# Altium footprint library MAX14626ETT_.PcbLib: 1 footprints
Each footprint in its own frame and in the unit in brackets; x right, y up, seen from the top. Pads: shape width x height; smd on the part's side, far side on the other; paste and mask are expansions set on the pad; w line width, h text height; cw(c..) or ccw(c..) is an arc to the next point about the centre after c.
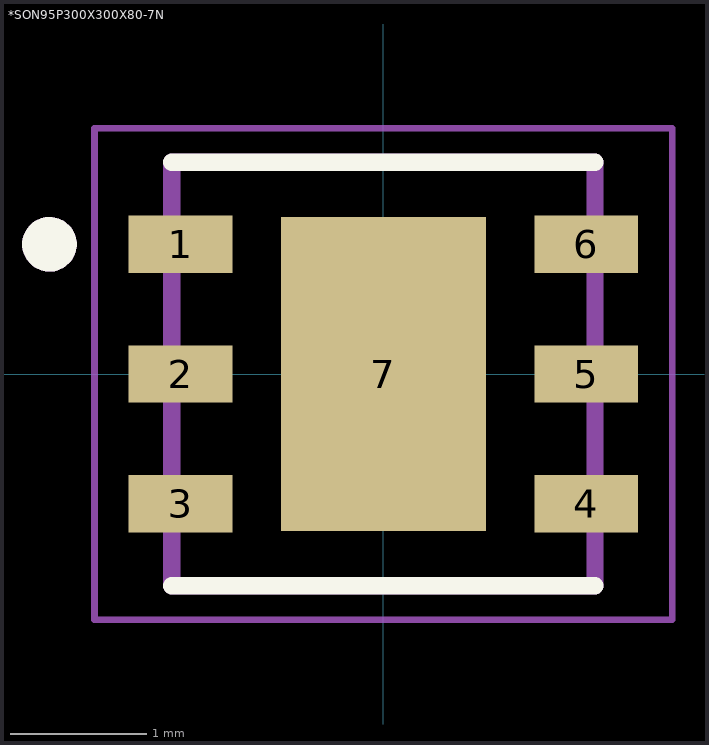
[diagram p0: the footprint, top view; thin cyan lines are the x and y axes]

## *SON95P300X300X80-7N [mm]
pads (7):
  rect 0.76x0.42 smd: 1(-1.485,0.95) 2(-1.485,0) 3(-1.485,-0.95) 4(1.485,-0.95) 5(1.485,0) 6(1.485,0.95)
  rect 1.5x2.3 smd: 7(0,0)
Top Overlay:
  circle w0.2: c-2.445,0.95 r0.1
  lines w0.127: -1.55,-1.55 1.55,-1.55 ; -1.55,1.55 1.55,1.55
Top Paste:
  region: -0.47,0.73 0.47,0.73 0.47,-0.73 -0.47,-0.73
Mechanical 4:
  circle w0.2: c-2.445,0.95 r0.1
  circle w0.2: c-2.445,0.95 r0.1
  lines w0.127: -1.55,-1.55 1.55,-1.55 ; -1.55,-1.55 -1.55,1.55 ; -1.55,-1.55 1.55,-1.55 ; -1.55,-1.55 -1.55,1.55 ; -1.55,1.55 1.55,1.55 ; -1.55,1.55 1.55,1.55 ; 1.55,-1.55 1.55,1.55 ; 1.55,-1.55 1.55,1.55
Mechanical 16:
  lines w0.05: -2.115,-1.8 2.115,-1.8 2.115,1.8 -2.115,1.8 -2.115,-1.8